# Altium footprint library PcbLib.PcbLib: 4 footprints
Each footprint in its own frame and in the unit in brackets; x right, y up, seen from the top. Pads: shape width x height; smd on the part's side, far side on the other; paste and mask are expansions set on the pad; w line width, h text height; cw(c..) or ccw(c..) is an arc to the next point about the centre after c.
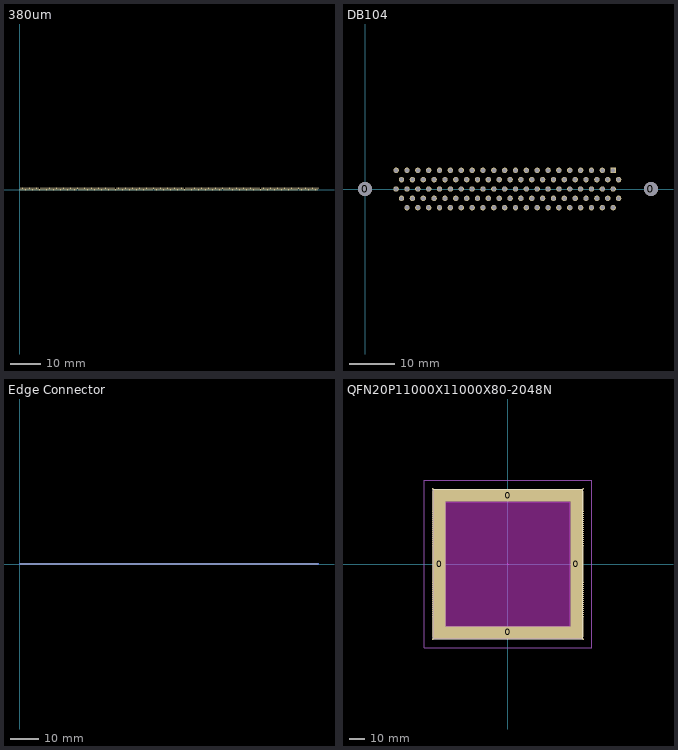
[diagram p0: the footprints below, top view; thin cyan lines are the x and y axes]

## 380um [mm]
pads (512):
  rect 0.1x0.4 smd mask+0: 1(0,0) 2(0.19,0.47) 3(0.38,0) 4(0.57,0.47) 5(0.76,0) 6(0.95,0.47) 7(1.14,0) 8(1.33,0.47) 9(1.52,0) 10(1.71,0.47) 11(1.9,0) 12(2.09,0.47) 13(2.28,0) 14(2.47,0.47) 15(2.66,0) 16(2.85,0.47) 17(3.04,0) 18(3.23,0.47) 19(3.42,0) 20(3.61,0.47) 21(3.8,0) 22(3.99,0.47) 23(4.18,0) 24(4.37,0.47) 25(4.56,0) 26(4.75,0.47) 27(4.94,0) 28(5.13,0.47) 29(5.32,0) 30(5.51,0.47) 31(5.7,0) 32(5.89,0.47) 33(6.08,0) 34(6.27,0.47) 35(6.46,0) 36(6.65,0.47) 37(6.84,0) 38(7.03,0.47) 39(7.22,0) 40(7.41,0.47) 41(7.6,0) 42(7.79,0.47) 43(7.98,0) 44(8.17,0.47) 45(8.36,0) 46(8.55,0.47) 47(8.74,0) 48(8.93,0.47) 49(9.12,0) 50(9.31,0.47) 51(9.5,0) 52(9.69,0.47) 53(9.88,0) 54(10.07,0.47) 55(10.26,0) 56(10.45,0.47) 57(10.64,0) 58(10.83,0.47) 59(11.02,0) 60(11.21,0.47) 61(11.4,0) 62(11.59,0.47) 63(11.78,0) 64(11.97,0.47) 65(12.16,0) 66(12.35,0.47) 67(12.54,0) 68(12.73,0.47) 69(12.92,0) 70(13.11,0.47) 71(13.3,0) 72(13.49,0.47) 73(13.68,0) 74(13.87,0.47) 75(14.06,0) 76(14.25,0.47) 77(14.44,0) 78(14.63,0.47) 79(14.82,0) 80(15.01,0.47) 81(15.2,0) 82(15.39,0.47) 83(15.58,0) 84(15.77,0.47) 85(15.96,0) 86(16.15,0.47) 87(16.34,0) 88(16.53,0.47) 89(16.72,0) 90(16.91,0.47) 91(17.1,0) 92(17.29,0.47) 93(17.48,0) 94(17.67,0.47) 95(17.86,0) 96(18.05,0.47) 97(18.24,0) 98(18.43,0.47) 99(18.62,0) 100(18.81,0.47) 101(19,0) 102(19.19,0.47) 103(19.38,0) 104(19.57,0.47) 105(19.76,0) 106(19.95,0.47) 107(20.14,0) 108(20.33,0.47) 109(20.52,0) 110(20.71,0.47) 111(20.9,0) 112(21.09,0.47) 113(21.28,0) 114(21.47,0.47) 115(21.66,0) 116(21.85,0.47) 117(22.04,0) 118(22.23,0.47) 119(22.42,0) 120(22.61,0.47) 121(22.8,0) 122(22.99,0.47) 123(23.18,0) 124(23.37,0.47) 125(23.56,0) 126(23.75,0.47) 127(23.94,0) 128(24.13,0.47) 129(24.32,0) 130(24.51,0.47) 131(24.7,0) 132(24.89,0.47) 133(25.08,0) 134(25.27,0.47) 135(25.46,0) 136(25.65,0.47) 137(25.84,0) 138(26.03,0.47) 139(26.22,0) 140(26.41,0.47) 141(26.6,0) 142(26.79,0.47) 143(26.98,0) 144(27.17,0.47) 145(27.36,0) 146(27.55,0.47) 147(27.74,0) 148(27.93,0.47) 149(28.12,0) 150(28.31,0.47) 151(28.5,0) 152(28.69,0.47) 153(28.88,0) 154(29.07,0.47) 155(29.26,0) 156(29.45,0.47) 157(29.64,0) 158(29.83,0.47) 159(30.02,0) 160(30.21,0.47) 161(30.4,0) 162(30.59,0.47) 163(30.78,0) 164(30.97,0.47) 165(31.16,0) 166(31.35,0.47) 167(31.54,0) 168(31.73,0.47) 169(31.92,0) 170(32.11,0.47) 171(32.3,0) 172(32.49,0.47) 173(32.68,0) 174(32.87,0.47) 175(33.06,0) 176(33.25,0.47) 177(33.44,0) 178(33.63,0.47) 179(33.82,0) 180(34.01,0.47) 181(34.2,0) 182(34.39,0.47) 183(34.58,0) 184(34.77,0.47) 185(34.96,0) 186(35.15,0.47) 187(35.34,0) 188(35.53,0.47) 189(35.72,0) 190(35.91,0.47) 191(36.1,0) 192(36.29,0.47) 193(36.48,0) 194(36.67,0.47) 195(36.86,0) 196(37.05,0.47) 197(37.24,0) 198(37.43,0.47) 199(37.62,0) 200(37.81,0.47) 201(38,0) 202(38.19,0.47) 203(38.38,0) 204(38.57,0.47) 205(38.76,0) 206(38.95,0.47) 207(39.14,0) 208(39.33,0.47) 209(39.52,0) 210(39.71,0.47) 211(39.9,0) 212(40.09,0.47) 213(40.28,0) 214(40.47,0.47) 215(40.66,0) 216(40.85,0.47) 217(41.04,0) 218(41.23,0.47) 219(41.42,0) 220(41.61,0.47) 221(41.8,0) 222(41.99,0.47) 223(42.18,0) 224(42.37,0.47) 225(42.56,0) 226(42.75,0.47) 227(42.94,0) 228(43.13,0.47) 229(43.32,0) 230(43.51,0.47) 231(43.7,0) 232(43.89,0.47) 233(44.08,0) 234(44.27,0.47) 235(44.46,0) 236(44.65,0.47) 237(44.84,0) 238(45.03,0.47) 239(45.22,0) 240(45.41,0.47) 241(45.6,0) 242(45.79,0.47) 243(45.98,0) 244(46.17,0.47) 245(46.36,0) 246(46.55,0.47) 247(46.74,0) 248(46.93,0.47) 249(47.12,0) 250(47.31,0.47) 251(47.5,0) 252(47.69,0.47) 253(47.88,0) 254(48.07,0.47) 255(48.26,0) 256(48.45,0.47) 257(48.64,0) 258(48.83,0.47) 259(49.02,0) 260(49.21,0.47) 261(49.4,0) 262(49.59,0.47) 263(49.78,0) 264(49.97,0.47) 265(50.16,0) 266(50.35,0.47) 267(50.54,0) 268(50.73,0.47) 269(50.92,0) 270(51.11,0.47) 271(51.3,0) 272(51.49,0.47) 273(51.68,0) 274(51.87,0.47) 275(52.06,0) 276(52.25,0.47) 277(52.44,0) 278(52.63,0.47) 279(52.82,0) 280(53.01,0.47) 281(53.2,0) 282(53.39,0.47) 283(53.58,0) 284(53.77,0.47) 285(53.96,0) 286(54.15,0.47) 287(54.34,0) 288(54.53,0.47) 289(54.72,0) 290(54.91,0.47) 291(55.1,0) 292(55.29,0.47) 293(55.48,0) 294(55.67,0.47) 295(55.86,0) 296(56.05,0.47) 297(56.24,0) 298(56.43,0.47) 299(56.62,0) 300(56.81,0.47) 301(57,0) 302(57.19,0.47) 303(57.38,0) 304(57.57,0.47) 305(57.76,0) 306(57.95,0.47) 307(58.14,0) 308(58.33,0.47) 309(58.52,0) 310(58.71,0.47) 311(58.9,0) 312(59.09,0.47) 313(59.28,0) 314(59.47,0.47) 315(59.66,0) 316(59.85,0.47) 317(60.04,0) 318(60.23,0.47) 319(60.42,0) 320(60.61,0.47) 321(60.8,0) 322(60.99,0.47) 323(61.18,0) 324(61.37,0.47) 325(61.56,0) 326(61.75,0.47) 327(61.94,0) 328(62.13,0.47) 329(62.32,0) 330(62.51,0.47) 331(62.7,0) 332(62.89,0.47) 333(63.08,0) 334(63.27,0.47) 335(63.46,0) 336(63.65,0.47) 337(63.84,0) 338(64.03,0.47) 339(64.22,0) 340(64.41,0.47) 341(64.6,0) 342(64.79,0.47) 343(64.98,0) 344(65.17,0.47) 345(65.36,0) 346(65.55,0.47) 347(65.74,0) 348(65.93,0.47) 349(66.12,0) 350(66.31,0.47) 351(66.5,0) 352(66.69,0.47) 353(66.88,0) 354(67.07,0.47) 355(67.26,0) 356(67.45,0.47) 357(67.64,0) 358(67.83,0.47) 359(68.02,0) 360(68.21,0.47) 361(68.4,0) 362(68.59,0.47) 363(68.78,0) 364(68.97,0.47) 365(69.16,0) 366(69.35,0.47) 367(69.54,0) 368(69.73,0.47) 369(69.92,0) 370(70.11,0.47) 371(70.3,0) 372(70.49,0.47) 373(70.68,0) 374(70.87,0.47) 375(71.06,0) 376(71.25,0.47) 377(71.44,0) 378(71.63,0.47) 379(71.82,0) 380(72.01,0.47) 381(72.2,0) 382(72.39,0.47) 383(72.58,0) 384(72.77,0.47) 385(72.96,0) 386(73.15,0.47) 387(73.34,0) 388(73.53,0.47) 389(73.72,0) 390(73.91,0.47) 391(74.1,0) 392(74.29,0.47) 393(74.48,0) 394(74.67,0.47) 395(74.86,0) 396(75.05,0.47) 397(75.24,0) 398(75.43,0.47) 399(75.62,0) 400(75.81,0.47) 401(76,0) 402(76.19,0.47) 403(76.38,0) 404(76.57,0.47) 405(76.76,0) 406(76.95,0.47) 407(77.14,0) 408(77.33,0.47) 409(77.52,0) 410(77.71,0.47) 411(77.9,0) 412(78.09,0.47) 413(78.28,0) 414(78.47,0.47) 415(78.66,0) 416(78.85,0.47) 417(79.04,0) 418(79.23,0.47) 419(79.42,0) 420(79.61,0.47) 421(79.8,0) 422(79.99,0.47) 423(80.18,0) 424(80.37,0.47) 425(80.56,0) 426(80.75,0.47) 427(80.94,0) 428(81.13,0.47) 429(81.32,0) 430(81.51,0.47) 431(81.7,0) 432(81.89,0.47) 433(82.08,0) 434(82.27,0.47) 435(82.46,0) 436(82.65,0.47) 437(82.84,0) 438(83.03,0.47) 439(83.22,0) 440(83.41,0.47) 441(83.6,0) 442(83.79,0.47) 443(83.98,0) 444(84.17,0.47) 445(84.36,0) 446(84.55,0.47) 447(84.74,0) 448(84.93,0.47) 449(85.12,0) 450(85.31,0.47) 451(85.5,0) 452(85.69,0.47) 453(85.88,0) 454(86.07,0.47) 455(86.26,0) 456(86.45,0.47) 457(86.64,0) 458(86.83,0.47) 459(87.02,0) 460(87.21,0.47) 461(87.4,0) 462(87.59,0.47) 463(87.78,0) 464(87.97,0.47) 465(88.16,0) 466(88.35,0.47) 467(88.54,0) 468(88.73,0.47) 469(88.92,0) 470(89.11,0.47) 471(89.3,0) 472(89.49,0.47) 473(89.68,0) 474(89.87,0.47) 475(90.06,0) 476(90.25,0.47) 477(90.44,0) 478(90.63,0.47) 479(90.82,0) 480(91.01,0.47) 481(91.2,0) 482(91.39,0.47) 483(91.58,0) 484(91.77,0.47) 485(91.96,0) 486(92.15,0.47) 487(92.34,0) 488(92.53,0.47) 489(92.72,0) 490(92.91,0.47) 491(93.1,0) 492(93.29,0.47) 493(93.48,0) 494(93.67,0.47) 495(93.86,0) 496(94.05,0.47) 497(94.24,0) 498(94.43,0.47) 499(94.62,0) 500(94.81,0.47) 501(95,0) 502(95.19,0.47) 503(95.38,0) 504(95.57,0.47) 505(95.76,0) 506(95.95,0.47) 507(96.14,0) 508(96.33,0.47) 509(96.52,0) 510(96.71,0.47) 511(96.9,0) 512(97.09,0.47)

## DB104 [mm]
pads (106):
  round 3.12 hole 3.12: 0(0,0) 0(63.5,0)
  rect 1.2x1.2 hole 0.89: 1(55.105,4.16)
  round 1.2 hole 0.89: 2(52.695,4.16) 3(50.285,4.16) 4(47.875,4.16) 5(45.465,4.16) 6(43.055,4.16) 7(40.645,4.16) 8(38.235,4.16) 9(35.825,4.16) 10(33.415,4.16) 11(31.005,4.16) 12(28.595,4.16) 13(26.185,4.16) 14(23.775,4.16) 15(21.365,4.16) 16(18.955,4.16) 17(16.545,4.16) 18(14.135,4.16) 19(11.725,4.16) 20(9.315,4.16) 21(6.905,4.16) 22(56.31,2.08) 23(53.9,2.08) 24(51.49,2.08) 25(49.08,2.08) 26(46.67,2.08) 27(44.26,2.08) 28(41.85,2.08) 29(39.44,2.08) 30(37.03,2.08) 31(34.62,2.08) 32(32.21,2.08) 33(29.8,2.08) 34(27.39,2.08) 35(24.98,2.08) 36(22.57,2.08) 37(20.16,2.08) 38(17.75,2.08) 39(15.34,2.08) 40(12.93,2.08) 41(10.52,2.08) 42(8.11,2.08) 43(55.105,0) 44(52.695,0) 45(50.285,0) 46(47.875,0) 47(45.465,0) 48(43.055,0) 49(40.645,0) 50(38.235,0) 51(35.825,0) 52(33.415,0) 53(31.005,0) 54(28.595,0) 55(26.185,0) 56(23.775,0) 57(21.365,0) 58(18.955,0) 59(16.545,0) 60(14.135,0) 61(11.725,0) 62(9.315,0) 63(6.905,0) 64(56.31,-2.08) 65(53.9,-2.08) 66(51.49,-2.08) 67(49.08,-2.08) 68(46.67,-2.08) 69(44.26,-2.08) 70(41.85,-2.08) 71(39.44,-2.08) 72(37.03,-2.08) 73(34.62,-2.08) 74(32.21,-2.08) 75(29.8,-2.08) 76(27.39,-2.08) 77(24.98,-2.08) 78(22.57,-2.08) 79(20.16,-2.08) 80(17.75,-2.08) 81(15.34,-2.08) 82(12.93,-2.08) 83(10.52,-2.08) 84(8.11,-2.08) 85(55.105,-4.16) 86(52.695,-4.16) 87(50.285,-4.16) 88(47.875,-4.16) 89(45.465,-4.16) 90(43.055,-4.16) 91(40.645,-4.16) 92(38.235,-4.16) 93(35.825,-4.16) 94(33.415,-4.16) 95(31.005,-4.16) 96(28.595,-4.16) 97(26.185,-4.16) 98(23.775,-4.16) 99(21.365,-4.16) 100(18.955,-4.16) 101(16.545,-4.16) 102(14.135,-4.16) 103(11.725,-4.16) 104(9.315,-4.16)
3D body "dd104s32000s.stp": height 15.59, standoff -7.49, extent -2.909,-8.484 66.408,8.484

## Edge Connector [mil]
pads (1024):
  rect 4x15.75 smd: 1(0,0) 2(8,0) 3(16,0) 4(24,0) 5(32,0) 6(40,0) 7(48,0) 8(56,0) 9(64,0) 10(72,0) 11(80,0) 12(88,0) 13(96,0) 14(104,0) 15(112,0) 16(120,0) 17(128,0) 18(136,0) 19(144,0) 20(152,0) 21(160,0) 22(168,0) 23(176,0) 24(184,0) 25(192,0) 26(200,0) 27(208,0) 28(216,0) 29(224,0) 30(232,0) 31(240,0) 32(248,0) 33(256,0) 34(264,0) 35(272,0) 36(280,0) 37(288,0) 38(296,0) 39(304,0) 40(312,0) 41(320,0) 42(328,0) 43(336,0) 44(344,0) 45(352,0) 46(360,0) 47(368,0) 48(376,0) 49(384,0) 50(392,0) 51(400,0) 52(408,0) 53(416,0) 54(424,0) 55(432,0) 56(440,0) 57(448,0) 58(456,0) 59(464,0) 60(472,0) 61(480,0) 62(488,0) 63(496,0) 64(504,0) 65(512,0) 66(520,0) 67(528,0) 68(536,0) 69(544,0) 70(552,0) 71(560,0) 72(568,0) 73(576,0) 74(584,0) 75(592,0) 76(600,0) 77(608,0) 78(616,0) 79(624,0) 80(632,0) 81(640,0) 82(648,0) 83(656,0) 84(664,0) 85(672,0) 86(680,0) 87(688,0) 88(696,0) 89(704,0) 90(712,0) 91(720,0) 92(728,0) 93(736,0) 94(744,0) 95(752,0) 96(760,0) 97(768,0) 98(776,0) 99(784,0) 100(792,0) 101(800,0) 102(808,0) 103(816,0) 104(824,0) 105(832,0) 106(840,0) 107(848,0) 108(856,0) 109(864,0) 110(872,0) 111(880,0) 112(888,0) 113(896,0) 114(904,0) 115(912,0) 116(920,0) 117(928,0) 118(936,0) 119(944,0) 120(952,0) 121(960,0) 122(968,0) 123(976,0) 124(984,0) 125(992,0) 126(1000,0) 127(1008,0) 128(1016,0) 129(1024,0) 130(1032,0) 131(1040,0) 132(1048,0) 133(1056,0) 134(1064,0) 135(1072,0) 136(1080,0) 137(1088,0) 138(1096,0) 139(1104,0) 140(1112,0) 141(1120,0) 142(1128,0) 143(1136,0) 144(1144,0) 145(1152,0) 146(1160,0) 147(1168,0) 148(1176,0) 149(1184,0) 150(1192,0) 151(1200,0) 152(1208,0) 153(1216,0) 154(1224,0) 155(1232,0) 156(1240,0) 157(1248,0) 158(1256,0) 159(1264,0) 160(1272,0) 161(1280,0) 162(1288,0) 163(1296,0) 164(1304,0) 165(1312,0) 166(1320,0) 167(1328,0) 168(1336,0) 169(1344,0) 170(1352,0) 171(1360,0) 172(1368,0) 173(1376,0) 174(1384,0) 175(1392,0) 176(1400,0) 177(1408,0) 178(1416,0) 179(1424,0) 180(1432,0) 181(1440,0) 182(1448,0) 183(1456,0) 184(1464,0) 185(1472,0) 186(1480,0) 187(1488,0) 188(1496,0) 189(1504,0) 190(1512,0) 191(1520,0) 192(1528,0) 193(1536,0) 194(1544,0) 195(1552,0) 196(1560,0) 197(1568,0) 198(1576,0) 199(1584,0) 200(1592,0) 201(1600,0) 202(1608,0) 203(1616,0) 204(1624,0) 205(1632,0) 206(1640,0) 207(1648,0) 208(1656,0) 209(1664,0) 210(1672,0) 211(1680,0) 212(1688,0) 213(1696,0) 214(1704,0) 215(1712,0) 216(1720,0) 217(1728,0) 218(1736,0) 219(1744,0) 220(1752,0) 221(1760,0) 222(1768,0) 223(1776,0) 224(1784,0) 225(1792,0) 226(1800,0) 227(1808,0) 228(1816,0) 229(1824,0) 230(1832,0) 231(1840,0) 232(1848,0) 233(1856,0) 234(1864,0) 235(1872,0) 236(1880,0) 237(1888,0) 238(1896,0) 239(1904,0) 240(1912,0) 241(1920,0) 242(1928,0) 243(1936,0) 244(1944,0) 245(1952,0) 246(1960,0) 247(1968,0) 248(1976,0) 249(1984,0) 250(1992,0) 251(2000,0) 252(2008,0) 253(2016,0) 254(2024,0) 255(2032,0) 256(2040,0) 257(2048,0) 258(2056,0) 259(2064,0) 260(2072,0) 261(2080,0) 262(2088,0) 263(2096,0) 264(2104,0) 265(2112,0) 266(2120,0) 267(2128,0) 268(2136,0) 269(2144,0) 270(2152,0) 271(2160,0) 272(2168,0) 273(2176,0) 274(2184,0) 275(2192,0) 276(2200,0) 277(2208,0) 278(2216,0) 279(2224,0) 280(2232,0) 281(2240,0) 282(2248,0) 283(2256,0) 284(2264,0) 285(2272,0) 286(2280,0) 287(2288,0) 288(2296,0) 289(2304,0) 290(2312,0) 291(2320,0) 292(2328,0) 293(2336,0) 294(2344,0) 295(2352,0) 296(2360,0) 297(2368,0) 298(2376,0) 299(2384,0) 300(2392,0) 301(2400,0) 302(2408,0) 303(2416,0) 304(2424,0) 305(2432,0) 306(2440,0) 307(2448,0) 308(2456,0) 309(2464,0) 310(2472,0) 311(2480,0) 312(2488,0) 313(2496,0) 314(2504,0) 315(2512,0) 316(2520,0) 317(2528,0) 318(2536,0) 319(2544,0) 320(2552,0) 321(2560,0) 322(2568,0) 323(2576,0) 324(2584,0) 325(2592,0) 326(2600,0) 327(2608,0) 328(2616,0) 329(2624,0) 330(2632,0) 331(2640,0) 332(2648,0) 333(2656,0) 334(2664,0) 335(2672,0) 336(2680,0) 337(2688,0) 338(2696,0) 339(2704,0) 340(2712,0) 341(2720,0) 342(2728,0) 343(2736,0) 344(2744,0) 345(2752,0) 346(2760,0) 347(2768,0) 348(2776,0) 349(2784,0) 350(2792,0) 351(2800,0) 352(2808,0) 353(2816,0) 354(2824,0) 355(2832,0) 356(2840,0) 357(2848,0) 358(2856,0) 359(2864,0) 360(2872,0) 361(2880,0) 362(2888,0) 363(2896,0) 364(2904,0) 365(2912,0) 366(2920,0) 367(2928,0) 368(2936,0) 369(2944,0) 370(2952,0) 371(2960,0) 372(2968,0) 373(2976,0) 374(2984,0) 375(2992,0) 376(3000,0) 377(3008,0) 378(3016,0) 379(3024,0) 380(3032,0) 381(3040,0) 382(3048,0) 383(3056,0) 384(3064,0) 385(3072,0) 386(3080,0) 387(3088,0) 388(3096,0) 389(3104,0) 390(3112,0) 391(3120,0) 392(3128,0) 393(3136,0) 394(3144,0) 395(3152,0) 396(3160,0) 397(3168,0) 398(3176,0) 399(3184,0) 400(3192,0) 401(3200,0) 402(3208,0) 403(3216,0) 404(3224,0) 405(3232,0) 406(3240,0) 407(3248,0) 408(3256,0) 409(3264,0) 410(3272,0) 411(3280,0) 412(3288,0) 413(3296,0) 414(3304,0) 415(3312,0) 416(3320,0) 417(3328,0) 418(3336,0) 419(3344,0) 420(3352,0) 421(3360,0) 422(3368,0) 423(3376,0) 424(3384,0) 425(3392,0) 426(3400,0) 427(3408,0) 428(3416,0) 429(3424,0) 430(3432,0) 431(3440,0) 432(3448,0) 433(3456,0) 434(3464,0) 435(3472,0) 436(3480,0) 437(3488,0) 438(3496,0) 439(3504,0) 440(3512,0) 441(3520,0) 442(3528,0) 443(3536,0) 444(3544,0) 445(3552,0) 446(3560,0) 447(3568,0) 448(3576,0) 449(3584,0) 450(3592,0) 451(3600,0) 452(3608,0) 453(3616,0) 454(3624,0) 455(3632,0) 456(3640,0) 457(3648,0) 458(3656,0) 459(3664,0) 460(3672,0) 461(3680,0) 462(3688,0) 463(3696,0) 464(3704,0) 465(3712,0) 466(3720,0) 467(3728,0) 468(3736,0) 469(3744,0) 470(3752,0) 471(3760,0) 472(3768,0) 473(3776,0) 474(3784,0) 475(3792,0) 476(3800,0) 477(3808,0) 478(3816,0) 479(3824,0) 480(3832,0) 481(3840,0) 482(3848,0) 483(3856,0) 484(3864,0) 485(3872,0) 486(3880,0) 487(3888,0) 488(3896,0) 489(3904,0) 490(3912,0) 491(3920,0) 492(3928,0) 493(3936,0) 494(3944,0) 495(3952,0) 496(3960,0) 497(3968,0) 498(3976,0) 499(3984,0) 500(3992,0) 501(4000,0) 502(4008,0) 503(4016,0) 504(4024,0) 505(4032,0) 506(4040,0) 507(4048,0) 508(4056,0) 509(4064,0) 510(4072,0) 511(4080,0) 512(4088,0)
  rect 4x15.75 smd far side: 1(0,0) 2(8,0) 3(16,0) 4(24,0) 5(32,0) 6(40,0) 7(48,0) 8(56,0) 9(64,0) 10(72,0) 11(80,0) 12(88,0) 13(96,0) 14(104,0) 15(112,0) 16(120,0) 17(128,0) 18(136,0) 19(144,0) 20(152,0) 21(160,0) 22(168,0) 23(176,0) 24(184,0) 25(192,0) 26(200,0) 27(208,0) 28(216,0) 29(224,0) 30(232,0) 31(240,0) 32(248,0) 33(256,0) 34(264,0) 35(272,0) 36(280,0) 37(288,0) 38(296,0) 39(304,0) 40(312,0) 41(320,0) 42(328,0) 43(336,0) 44(344,0) 45(352,0) 46(360,0) 47(368,0) 48(376,0) 49(384,0) 50(392,0) 51(400,0) 52(408,0) 53(416,0) 54(424,0) 55(432,0) 56(440,0) 57(448,0) 58(456,0) 59(464,0) 60(472,0) 61(480,0) 62(488,0) 63(496,0) 64(504,0) 65(512,0) 66(520,0) 67(528,0) 68(536,0) 69(544,0) 70(552,0) 71(560,0) 72(568,0) 73(576,0) 74(584,0) 75(592,0) 76(600,0) 77(608,0) 78(616,0) 79(624,0) 80(632,0) 81(640,0) 82(648,0) 83(656,0) 84(664,0) 85(672,0) 86(680,0) 87(688,0) 88(696,0) 89(704,0) 90(712,0) 91(720,0) 92(728,0) 93(736,0) 94(744,0) 95(752,0) 96(760,0) 97(768,0) 98(776,0) 99(784,0) 100(792,0) 101(800,0) 102(808,0) 103(816,0) 104(824,0) 105(832,0) 106(840,0) 107(848,0) 108(856,0) 109(864,0) 110(872,0) 111(880,0) 112(888,0) 113(896,0) 114(904,0) 115(912,0) 116(920,0) 117(928,0) 118(936,0) 119(944,0) 120(952,0) 121(960,0) 122(968,0) 123(976,0) 124(984,0) 125(992,0) 126(1000,0) 127(1008,0) 128(1016,0) 129(1024,0) 130(1032,0) 131(1040,0) 132(1048,0) 133(1056,0) 134(1064,0) 135(1072,0) 136(1080,0) 137(1088,0) 138(1096,0) 139(1104,0) 140(1112,0) 141(1120,0) 142(1128,0) 143(1136,0) 144(1144,0) 145(1152,0) 146(1160,0) 147(1168,0) 148(1176,0) 149(1184,0) 150(1192,0) 151(1200,0) 152(1208,0) 153(1216,0) 154(1224,0) 155(1232,0) 156(1240,0) 157(1248,0) 158(1256,0) 159(1264,0) 160(1272,0) 161(1280,0) 162(1288,0) 163(1296,0) 164(1304,0) 165(1312,0) 166(1320,0) 167(1328,0) 168(1336,0) 169(1344,0) 170(1352,0) 171(1360,0) 172(1368,0) 173(1376,0) 174(1384,0) 175(1392,0) 176(1400,0) 177(1408,0) 178(1416,0) 179(1424,0) 180(1432,0) 181(1440,0) 182(1448,0) 183(1456,0) 184(1464,0) 185(1472,0) 186(1480,0) 187(1488,0) 188(1496,0) 189(1504,0) 190(1512,0) 191(1520,0) 192(1528,0) 193(1536,0) 194(1544,0) 195(1552,0) 196(1560,0) 197(1568,0) 198(1576,0) 199(1584,0) 200(1592,0) 201(1600,0) 202(1608,0) 203(1616,0) 204(1624,0) 205(1632,0) 206(1640,0) 207(1648,0) 208(1656,0) 209(1664,0) 210(1672,0) 211(1680,0) 212(1688,0) 213(1696,0) 214(1704,0) 215(1712,0) 216(1720,0) 217(1728,0) 218(1736,0) 219(1744,0) 220(1752,0) 221(1760,0) 222(1768,0) 223(1776,0) 224(1784,0) 225(1792,0) 226(1800,0) 227(1808,0) 228(1816,0) 229(1824,0) 230(1832,0) 231(1840,0) 232(1848,0) 233(1856,0) 234(1864,0) 235(1872,0) 236(1880,0) 237(1888,0) 238(1896,0) 239(1904,0) 240(1912,0) 241(1920,0) 242(1928,0) 243(1936,0) 244(1944,0) 245(1952,0) 246(1960,0) 247(1968,0) 248(1976,0) 249(1984,0) 250(1992,0) 251(2000,0) 252(2008,0) 253(2016,0) 254(2024,0) 255(2032,0) 256(2040,0) 257(2048,0) 258(2056,0) 259(2064,0) 260(2072,0) 261(2080,0) 262(2088,0) 263(2096,0) 264(2104,0) 265(2112,0) 266(2120,0) 267(2128,0) 268(2136,0) 269(2144,0) 270(2152,0) 271(2160,0) 272(2168,0) 273(2176,0) 274(2184,0) 275(2192,0) 276(2200,0) 277(2208,0) 278(2216,0) 279(2224,0) 280(2232,0) 281(2240,0) 282(2248,0) 283(2256,0) 284(2264,0) 285(2272,0) 286(2280,0) 287(2288,0) 288(2296,0) 289(2304,0) 290(2312,0) 291(2320,0) 292(2328,0) 293(2336,0) 294(2344,0) 295(2352,0) 296(2360,0) 297(2368,0) 298(2376,0) 299(2384,0) 300(2392,0) 301(2400,0) 302(2408,0) 303(2416,0) 304(2424,0) 305(2432,0) 306(2440,0) 307(2448,0) 308(2456,0) 309(2464,0) 310(2472,0) 311(2480,0) 312(2488,0) 313(2496,0) 314(2504,0) 315(2512,0) 316(2520,0) 317(2528,0) 318(2536,0) 319(2544,0) 320(2552,0) 321(2560,0) 322(2568,0) 323(2576,0) 324(2584,0) 325(2592,0) 326(2600,0) 327(2608,0) 328(2616,0) 329(2624,0) 330(2632,0) 331(2640,0) 332(2648,0) 333(2656,0) 334(2664,0) 335(2672,0) 336(2680,0) 337(2688,0) 338(2696,0) 339(2704,0) 340(2712,0) 341(2720,0) 342(2728,0) 343(2736,0) 344(2744,0) 345(2752,0) 346(2760,0) 347(2768,0) 348(2776,0) 349(2784,0) 350(2792,0) 351(2800,0) 352(2808,0) 353(2816,0) 354(2824,0) 355(2832,0) 356(2840,0) 357(2848,0) 358(2856,0) 359(2864,0) 360(2872,0) 361(2880,0) 362(2888,0) 363(2896,0) 364(2904,0) 365(2912,0) 366(2920,0) 367(2928,0) 368(2936,0) 369(2944,0) 370(2952,0) 371(2960,0) 372(2968,0) 373(2976,0) 374(2984,0) 375(2992,0) 376(3000,0) 377(3008,0) 378(3016,0) 379(3024,0) 380(3032,0) 381(3040,0) 382(3048,0) 383(3056,0) 384(3064,0) 385(3072,0) 386(3080,0) 387(3088,0) 388(3096,0) 389(3104,0) 390(3112,0) 391(3120,0) 392(3128,0) 393(3136,0) 394(3144,0) 395(3152,0) 396(3160,0) 397(3168,0) 398(3176,0) 399(3184,0) 400(3192,0) 401(3200,0) 402(3208,0) 403(3216,0) 404(3224,0) 405(3232,0) 406(3240,0) 407(3248,0) 408(3256,0) 409(3264,0) 410(3272,0) 411(3280,0) 412(3288,0) 413(3296,0) 414(3304,0) 415(3312,0) 416(3320,0) 417(3328,0) 418(3336,0) 419(3344,0) 420(3352,0) 421(3360,0) 422(3368,0) 423(3376,0) 424(3384,0) 425(3392,0) 426(3400,0) 427(3408,0) 428(3416,0) 429(3424,0) 430(3432,0) 431(3440,0) 432(3448,0) 433(3456,0) 434(3464,0) 435(3472,0) 436(3480,0) 437(3488,0) 438(3496,0) 439(3504,0) 440(3512,0) 441(3520,0) 442(3528,0) 443(3536,0) 444(3544,0) 445(3552,0) 446(3560,0) 447(3568,0) 448(3576,0) 449(3584,0) 450(3592,0) 451(3600,0) 452(3608,0) 453(3616,0) 454(3624,0) 455(3632,0) 456(3640,0) 457(3648,0) 458(3656,0) 459(3664,0) 460(3672,0) 461(3680,0) 462(3688,0) 463(3696,0) 464(3704,0) 465(3712,0) 466(3720,0) 467(3728,0) 468(3736,0) 469(3744,0) 470(3752,0) 471(3760,0) 472(3768,0) 473(3776,0) 474(3784,0) 475(3792,0) 476(3800,0) 477(3808,0) 478(3816,0) 479(3824,0) 480(3832,0) 481(3840,0) 482(3848,0) 483(3856,0) 484(3864,0) 485(3872,0) 486(3880,0) 487(3888,0) 488(3896,0) 489(3904,0) 490(3912,0) 491(3920,0) 492(3928,0) 493(3936,0) 494(3944,0) 495(3952,0) 496(3960,0) 497(3968,0) 498(3976,0) 499(3984,0) 500(3992,0) 501(4000,0) 502(4008,0) 503(4016,0) 504(4024,0) 505(4032,0) 506(4040,0) 507(4048,0) 508(4056,0) 509(4064,0) 510(4072,0) 511(4080,0) 512(4088,0)

## QFN20P11000X11000X80-2048N [mm] "QFN, 2048-Leads, Body 110,00x110,00mm, Pitch 0,20mm, IPC Medium Density"
height 0.8
pads (1032):
  rect 8x98.7 smd: 0(-45.385,0) 0(45.385,0)
  rect 98.7x8 smd: 0(0,-45.385) 0(0,45.385)
  rect 0.4x0.1 smd paste+0 mask+0: 1(-50.085,48.545) 2(-50.085,48.355) 3(-50.085,48.165) 4(-50.085,47.975) 5(-50.085,47.785) 6(-50.085,47.595) 7(-50.085,47.405) 8(-50.085,47.215) 9(-50.085,47.025) 10(-50.085,46.835) 11(-50.085,46.645) 12(-50.085,46.455) 13(-50.085,46.265) 14(-50.085,46.075) 15(-50.085,45.885) 16(-50.085,45.695) 17(-50.085,45.505) 18(-50.085,45.315) 19(-50.085,45.125) 20(-50.085,44.935) 21(-50.085,44.745) 22(-50.085,44.555) 23(-50.085,44.365) 24(-50.085,44.175) 25(-50.085,43.985) 26(-50.085,43.795) 27(-50.085,43.605) 28(-50.085,43.415) 29(-50.085,43.225) 30(-50.085,43.035) 31(-50.085,42.845) 32(-50.085,42.655) 33(-50.085,42.465) 34(-50.085,42.275) 35(-50.085,42.085) 36(-50.085,41.895) 37(-50.085,41.705) 38(-50.085,41.515) 39(-50.085,41.325) 40(-50.085,41.135) 41(-50.085,40.945) 42(-50.085,40.755) 43(-50.085,40.565) 44(-50.085,40.375) 45(-50.085,40.185) 46(-50.085,39.995) 47(-50.085,39.805) 48(-50.085,39.615) 49(-50.085,39.425) 50(-50.085,39.235) 51(-50.085,39.045) 52(-50.085,38.855) 53(-50.085,38.665) 54(-50.085,38.475) 55(-50.085,38.285) 56(-50.085,38.095) 57(-50.085,37.905) 58(-50.085,37.715) 59(-50.085,37.525) 60(-50.085,37.335) 61(-50.085,37.145) 62(-50.085,36.955) 63(-50.085,36.765) 64(-50.085,36.575) 65(-50.085,36.385) 66(-50.085,36.195) 67(-50.085,36.005) 68(-50.085,35.815) 69(-50.085,35.625) 70(-50.085,35.435) 71(-50.085,35.245) 72(-50.085,35.055) 73(-50.085,34.865) 74(-50.085,34.675) 75(-50.085,34.485) 76(-50.085,34.295) 77(-50.085,34.105) 78(-50.085,33.915) 79(-50.085,33.725) 80(-50.085,33.535) 81(-50.085,33.345) 82(-50.085,33.155) 83(-50.085,32.965) 84(-50.085,32.775) 85(-50.085,32.585) 86(-50.085,32.395) 87(-50.085,32.205) 88(-50.085,32.015) 89(-50.085,31.825) 90(-50.085,31.635) 91(-50.085,31.445) 92(-50.085,31.255) 93(-50.085,31.065) 94(-50.085,30.875) 95(-50.085,30.685) 96(-50.085,30.495) 97(-50.085,30.305) 98(-50.085,30.115) 99(-50.085,29.925) 100(-50.085,29.735) 101(-50.085,29.545) 102(-50.085,29.355) 103(-50.085,29.165) 104(-50.085,28.975) 105(-50.085,28.785) 106(-50.085,28.595) 107(-50.085,28.405) 108(-50.085,28.215) 109(-50.085,28.025) 110(-50.085,27.835) 111(-50.085,27.645) 112(-50.085,27.455) 113(-50.085,27.265) 114(-50.085,27.075) 115(-50.085,26.885) 116(-50.085,26.695) 117(-50.085,26.505) 118(-50.085,26.315) 119(-50.085,26.125) 120(-50.085,25.935) 121(-50.085,25.745) 122(-50.085,25.555) 123(-50.085,25.365) 124(-50.085,25.175) 125(-50.085,24.985) 126(-50.085,24.795) 127(-50.085,24.605) 128(-50.085,24.415) 129(-50.085,24.225) 130(-50.085,24.035) 131(-50.085,23.845) 132(-50.085,23.655) 133(-50.085,23.465) 134(-50.085,23.275) 135(-50.085,23.085) 136(-50.085,22.895) 137(-50.085,22.705) 138(-50.085,22.515) 139(-50.085,22.325) 140(-50.085,22.135) 141(-50.085,21.945) 142(-50.085,21.755) 143(-50.085,21.565) 144(-50.085,21.375) 145(-50.085,21.185) 146(-50.085,20.995) 147(-50.085,20.805) 148(-50.085,20.615) 149(-50.085,20.425) 150(-50.085,20.235) 151(-50.085,20.045) 152(-50.085,19.855) 153(-50.085,19.665) 154(-50.085,19.475) 155(-50.085,19.285) 156(-50.085,19.095) 157(-50.085,18.905) 158(-50.085,18.715) 159(-50.085,18.525) 160(-50.085,18.335) 161(-50.085,18.145) 162(-50.085,17.955) 163(-50.085,17.765) 164(-50.085,17.575) 165(-50.085,17.385) 166(-50.085,17.195) 167(-50.085,17.005) 168(-50.085,16.815) 169(-50.085,16.625) 170(-50.085,16.435) 171(-50.085,16.245) 172(-50.085,16.055) 173(-50.085,15.865) 174(-50.085,15.675) 175(-50.085,15.485) 176(-50.085,15.295) 177(-50.085,15.105) 178(-50.085,14.915) 179(-50.085,14.725) 180(-50.085,14.535) 181(-50.085,14.345) 182(-50.085,14.155) 183(-50.085,13.965) 184(-50.085,13.775) 185(-50.085,13.585) 186(-50.085,13.395) 187(-50.085,13.205) 188(-50.085,13.015) 189(-50.085,12.825) 190(-50.085,12.635) 191(-50.085,12.445) 192(-50.085,12.255) 193(-50.085,12.065) 194(-50.085,11.875) 195(-50.085,11.685) 196(-50.085,11.495) 197(-50.085,11.305) 198(-50.085,11.115) 199(-50.085,10.925) 200(-50.085,10.735) 201(-50.085,10.545) 202(-50.085,10.355) 203(-50.085,10.165) 204(-50.085,9.975) 205(-50.085,9.785) 206(-50.085,9.595) 207(-50.085,9.405) 208(-50.085,9.215) 209(-50.085,9.025) 210(-50.085,8.835) 211(-50.085,8.645) 212(-50.085,8.455) 213(-50.085,8.265) 214(-50.085,8.075) 215(-50.085,7.885) 216(-50.085,7.695) 217(-50.085,7.505) 218(-50.085,7.315) 219(-50.085,7.125) 220(-50.085,6.935) 221(-50.085,6.745) 222(-50.085,6.555) 223(-50.085,6.365) 224(-50.085,6.175) 225(-50.085,5.985) 226(-50.085,5.795) 227(-50.085,5.605) 228(-50.085,5.415) 229(-50.085,5.225) 230(-50.085,5.035) 231(-50.085,4.845) 232(-50.085,4.655) 233(-50.085,4.465) 234(-50.085,4.275) 235(-50.085,4.085) 236(-50.085,3.895) 237(-50.085,3.705) 238(-50.085,3.515) 239(-50.085,3.325) 240(-50.085,3.135) 241(-50.085,2.945) 242(-50.085,2.755) 243(-50.085,2.565) 244(-50.085,2.375) 245(-50.085,2.185) 246(-50.085,1.995) 247(-50.085,1.805) 248(-50.085,1.615) 249(-50.085,1.425) 250(-50.085,1.235) 251(-50.085,1.045) 252(-50.085,0.855) 253(-50.085,0.665) 254(-50.085,0.475) 255(-50.085,0.285) 256(-50.085,0.095) 257(-50.085,-0.095) 258(-50.085,-0.285) 259(-50.085,-0.475) 260(-50.085,-0.665) 261(-50.085,-0.855) 262(-50.085,-1.045) 263(-50.085,-1.235) 264(-50.085,-1.425) 265(-50.085,-1.615) 266(-50.085,-1.805) 267(-50.085,-1.995) 268(-50.085,-2.185) 269(-50.085,-2.375) 270(-50.085,-2.565) 271(-50.085,-2.755) 272(-50.085,-2.945) 273(-50.085,-3.135) 274(-50.085,-3.325) 275(-50.085,-3.515) 276(-50.085,-3.705) 277(-50.085,-3.895) 278(-50.085,-4.085) 279(-50.085,-4.275) 280(-50.085,-4.465) 281(-50.085,-4.655) 282(-50.085,-4.845) 283(-50.085,-5.035) 284(-50.085,-5.225) 285(-50.085,-5.415) 286(-50.085,-5.605) 287(-50.085,-5.795) 288(-50.085,-5.985) 289(-50.085,-6.175) 290(-50.085,-6.365) 291(-50.085,-6.555) 292(-50.085,-6.745) 293(-50.085,-6.935) 294(-50.085,-7.125) 295(-50.085,-7.315) 296(-50.085,-7.505) 297(-50.085,-7.695) 298(-50.085,-7.885) 299(-50.085,-8.075) 300(-50.085,-8.265) 301(-50.085,-8.455) 302(-50.085,-8.645) 303(-50.085,-8.835) 304(-50.085,-9.025) 305(-50.085,-9.215) 306(-50.085,-9.405) 307(-50.085,-9.595) 308(-50.085,-9.785) 309(-50.085,-9.975) 310(-50.085,-10.165) 311(-50.085,-10.355) 312(-50.085,-10.545) 313(-50.085,-10.735) 314(-50.085,-10.925) 315(-50.085,-11.115) 316(-50.085,-11.305) 317(-50.085,-11.495) 318(-50.085,-11.685) 319(-50.085,-11.875) 320(-50.085,-12.065) 321(-50.085,-12.255) 322(-50.085,-12.445) 323(-50.085,-12.635) 324(-50.085,-12.825) 325(-50.085,-13.015) 326(-50.085,-13.205) 327(-50.085,-13.395) 328(-50.085,-13.585) 329(-50.085,-13.775) 330(-50.085,-13.965) 331(-50.085,-14.155) 332(-50.085,-14.345) 333(-50.085,-14.535) 334(-50.085,-14.725) 335(-50.085,-14.915) 336(-50.085,-15.105) 337(-50.085,-15.295) 338(-50.085,-15.485) 339(-50.085,-15.675) 340(-50.085,-15.865) 341(-50.085,-16.055) 342(-50.085,-16.245) 343(-50.085,-16.435) 344(-50.085,-16.625) 345(-50.085,-16.815) 346(-50.085,-17.005) 347(-50.085,-17.195) 348(-50.085,-17.385) 349(-50.085,-17.575) 350(-50.085,-17.765) 351(-50.085,-17.955) 352(-50.085,-18.145) 353(-50.085,-18.335) 354(-50.085,-18.525) 355(-50.085,-18.715) 356(-50.085,-18.905) 357(-50.085,-19.095) 358(-50.085,-19.285) 359(-50.085,-19.475) 360(-50.085,-19.665) 361(-50.085,-19.855) 362(-50.085,-20.045) 363(-50.085,-20.235) 364(-50.085,-20.425) 365(-50.085,-20.615) 366(-50.085,-20.805) 367(-50.085,-20.995) 368(-50.085,-21.185) 369(-50.085,-21.375) 370(-50.085,-21.565) 371(-50.085,-21.755) 372(-50.085,-21.945) 373(-50.085,-22.135) 374(-50.085,-22.325) 375(-50.085,-22.515) 376(-50.085,-22.705) 377(-50.085,-22.895) 378(-50.085,-23.085) 379(-50.085,-23.275) 380(-50.085,-23.465) 381(-50.085,-23.655) 382(-50.085,-23.845) 383(-50.085,-24.035) 384(-50.085,-24.225) 385(-50.085,-24.415) 386(-50.085,-24.605) 387(-50.085,-24.795) 388(-50.085,-24.985) 389(-50.085,-25.175) 390(-50.085,-25.365) 391(-50.085,-25.555) 392(-50.085,-25.745) 393(-50.085,-25.935) 394(-50.085,-26.125) 395(-50.085,-26.315) 396(-50.085,-26.505) 397(-50.085,-26.695) 398(-50.085,-26.885) 399(-50.085,-27.075) 400(-50.085,-27.265) 401(-50.085,-27.455) 402(-50.085,-27.645) 403(-50.085,-27.835) 404(-50.085,-28.025) 405(-50.085,-28.215) 406(-50.085,-28.405) 407(-50.085,-28.595) 408(-50.085,-28.785) 409(-50.085,-28.975) 410(-50.085,-29.165) 411(-50.085,-29.355) 412(-50.085,-29.545) 413(-50.085,-29.735) 414(-50.085,-29.925) 415(-50.085,-30.115) 416(-50.085,-30.305) 417(-50.085,-30.495) 418(-50.085,-30.685) 419(-50.085,-30.875) 420(-50.085,-31.065) 421(-50.085,-31.255) 422(-50.085,-31.445) 423(-50.085,-31.635) 424(-50.085,-31.825) 425(-50.085,-32.015) 426(-50.085,-32.205) 427(-50.085,-32.395) 428(-50.085,-32.585) 429(-50.085,-32.775) 430(-50.085,-32.965) 431(-50.085,-33.155) 432(-50.085,-33.345) 433(-50.085,-33.535) 434(-50.085,-33.725) 435(-50.085,-33.915) 436(-50.085,-34.105) 437(-50.085,-34.295) 438(-50.085,-34.485) 439(-50.085,-34.675) 440(-50.085,-34.865) 441(-50.085,-35.055) 442(-50.085,-35.245) 443(-50.085,-35.435) 444(-50.085,-35.625) 445(-50.085,-35.815) 446(-50.085,-36.005) 447(-50.085,-36.195) 448(-50.085,-36.385) 449(-50.085,-36.575) 450(-50.085,-36.765) 451(-50.085,-36.955) 452(-50.085,-37.145) 453(-50.085,-37.335) 454(-50.085,-37.525) 455(-50.085,-37.715) 456(-50.085,-37.905) 457(-50.085,-38.095) 458(-50.085,-38.285) 459(-50.085,-38.475) 460(-50.085,-38.665) 461(-50.085,-38.855) 462(-50.085,-39.045) 463(-50.085,-39.235) 464(-50.085,-39.425) 465(-50.085,-39.615) 466(-50.085,-39.805) 467(-50.085,-39.995) 468(-50.085,-40.185) 469(-50.085,-40.375) 470(-50.085,-40.565) 471(-50.085,-40.755) 472(-50.085,-40.945) 473(-50.085,-41.135) 474(-50.085,-41.325) 475(-50.085,-41.515) 476(-50.085,-41.705) 477(-50.085,-41.895) 478(-50.085,-42.085) 479(-50.085,-42.275) 480(-50.085,-42.465) 481(-50.085,-42.655) 482(-50.085,-42.845) 483(-50.085,-43.035) 484(-50.085,-43.225) 485(-50.085,-43.415) 486(-50.085,-43.605) 487(-50.085,-43.795) 488(-50.085,-43.985) 489(-50.085,-44.175) 490(-50.085,-44.365) 491(-50.085,-44.555) 492(-50.085,-44.745) 493(-50.085,-44.935) 494(-50.085,-45.125) 495(-50.085,-45.315) 496(-50.085,-45.505) 497(-50.085,-45.695) 498(-50.085,-45.885) 499(-50.085,-46.075) 500(-50.085,-46.265) 501(-50.085,-46.455) 502(-50.085,-46.645) 503(-50.085,-46.835) 504(-50.085,-47.025) 505(-50.085,-47.215) 506(-50.085,-47.405) 507(-50.085,-47.595) 508(-50.085,-47.785) 509(-50.085,-47.975) 510(-50.085,-48.165) 511(-50.085,-48.355) 512(-50.085,-48.545) 513(50.085,-48.545) 514(50.085,-48.355) 515(50.085,-48.165) 516(50.085,-47.975) 517(50.085,-47.785) 518(50.085,-47.595) 519(50.085,-47.405) 520(50.085,-47.215) 521(50.085,-47.025) 522(50.085,-46.835) 523(50.085,-46.645) 524(50.085,-46.455) 525(50.085,-46.265) 526(50.085,-46.075) 527(50.085,-45.885) 528(50.085,-45.695) 529(50.085,-45.505) 530(50.085,-45.315) 531(50.085,-45.125) 532(50.085,-44.935) 533(50.085,-44.745) 534(50.085,-44.555) 535(50.085,-44.365) 536(50.085,-44.175) 537(50.085,-43.985) 538(50.085,-43.795) 539(50.085,-43.605) 540(50.085,-43.415) 541(50.085,-43.225) 542(50.085,-43.035) 543(50.085,-42.845) 544(50.085,-42.655) 545(50.085,-42.465) 546(50.085,-42.275) 547(50.085,-42.085) 548(50.085,-41.895) 549(50.085,-41.705) 550(50.085,-41.515) 551(50.085,-41.325) 552(50.085,-41.135) 553(50.085,-40.945) 554(50.085,-40.755) 555(50.085,-40.565) 556(50.085,-40.375) 557(50.085,-40.185) 558(50.085,-39.995) 559(50.085,-39.805) 560(50.085,-39.615) 561(50.085,-39.425) 562(50.085,-39.235) 563(50.085,-39.045) 564(50.085,-38.855) 565(50.085,-38.665) 566(50.085,-38.475) 567(50.085,-38.285) 568(50.085,-38.095) 569(50.085,-37.905) 570(50.085,-37.715) 571(50.085,-37.525) 572(50.085,-37.335) 573(50.085,-37.145) 574(50.085,-36.955) 575(50.085,-36.765) 576(50.085,-36.575) 577(50.085,-36.385) 578(50.085,-36.195) 579(50.085,-36.005) 580(50.085,-35.815) 581(50.085,-35.625) 582(50.085,-35.435) 583(50.085,-35.245) 584(50.085,-35.055) 585(50.085,-34.865) 586(50.085,-34.675) 587(50.085,-34.485) 588(50.085,-34.295) 589(50.085,-34.105) 590(50.085,-33.915) 591(50.085,-33.725) 592(50.085,-33.535) 593(50.085,-33.345) 594(50.085,-33.155) 595(50.085,-32.965) 596(50.085,-32.775) 597(50.085,-32.585) 598(50.085,-32.395) 599(50.085,-32.205) 600(50.085,-32.015) 601(50.085,-31.825) 602(50.085,-31.635) 603(50.085,-31.445) 604(50.085,-31.255) 605(50.085,-31.065) 606(50.085,-30.875) 607(50.085,-30.685) 608(50.085,-30.495) 609(50.085,-30.305) 610(50.085,-30.115) 611(50.085,-29.925) 612(50.085,-29.735) 613(50.085,-29.545) 614(50.085,-29.355) 615(50.085,-29.165) 616(50.085,-28.975) 617(50.085,-28.785) 618(50.085,-28.595) 619(50.085,-28.405) 620(50.085,-28.215) 621(50.085,-28.025) 622(50.085,-27.835) 623(50.085,-27.645) 624(50.085,-27.455) 625(50.085,-27.265) 626(50.085,-27.075) 627(50.085,-26.885) 628(50.085,-26.695) 629(50.085,-26.505) 630(50.085,-26.315) 631(50.085,-26.125) 632(50.085,-25.935) 633(50.085,-25.745) 634(50.085,-25.555) 635(50.085,-25.365) 636(50.085,-25.175) 637(50.085,-24.985) 638(50.085,-24.795) 639(50.085,-24.605) 640(50.085,-24.415) 641(50.085,-24.225) 642(50.085,-24.035) 643(50.085,-23.845) 644(50.085,-23.655) 645(50.085,-23.465) 646(50.085,-23.275) 647(50.085,-23.085) 648(50.085,-22.895) 649(50.085,-22.705) 650(50.085,-22.515) 651(50.085,-22.325) 652(50.085,-22.135) 653(50.085,-21.945) 654(50.085,-21.755) 655(50.085,-21.565) 656(50.085,-21.375) 657(50.085,-21.185) 658(50.085,-20.995) 659(50.085,-20.805) 660(50.085,-20.615) 661(50.085,-20.425) 662(50.085,-20.235) 663(50.085,-20.045) 664(50.085,-19.855) 665(50.085,-19.665) 666(50.085,-19.475) 667(50.085,-19.285) 668(50.085,-19.095) 669(50.085,-18.905) 670(50.085,-18.715) 671(50.085,-18.525) 672(50.085,-18.335) 673(50.085,-18.145) 674(50.085,-17.955) 675(50.085,-17.765) 676(50.085,-17.575) 677(50.085,-17.385) 678(50.085,-17.195) 679(50.085,-17.005) 680(50.085,-16.815) 681(50.085,-16.625) 682(50.085,-16.435) 683(50.085,-16.245) 684(50.085,-16.055) 685(50.085,-15.865) 686(50.085,-15.675) 687(50.085,-15.485) 688(50.085,-15.295) 689(50.085,-15.105) 690(50.085,-14.915) 691(50.085,-14.725) 692(50.085,-14.535) 693(50.085,-14.345) 694(50.085,-14.155) 695(50.085,-13.965) 696(50.085,-13.775) 697(50.085,-13.585) 698(50.085,-13.395) 699(50.085,-13.205) 700(50.085,-13.015) 701(50.085,-12.825) 702(50.085,-12.635) 703(50.085,-12.445) 704(50.085,-12.255) 705(50.085,-12.065) 706(50.085,-11.875) 707(50.085,-11.685) 708(50.085,-11.495) 709(50.085,-11.305) 710(50.085,-11.115) 711(50.085,-10.925) 712(50.085,-10.735) 713(50.085,-10.545) 714(50.085,-10.355) 715(50.085,-10.165) 716(50.085,-9.975) 717(50.085,-9.785) 718(50.085,-9.595) 719(50.085,-9.405) 720(50.085,-9.215) 721(50.085,-9.025) 722(50.085,-8.835) 723(50.085,-8.645) 724(50.085,-8.455) 725(50.085,-8.265) 726(50.085,-8.075) 727(50.085,-7.885) 728(50.085,-7.695) 729(50.085,-7.505) 730(50.085,-7.315) 731(50.085,-7.125) 732(50.085,-6.935) 733(50.085,-6.745) 734(50.085,-6.555) 735(50.085,-6.365) 736(50.085,-6.175) 737(50.085,-5.985) 738(50.085,-5.795) 739(50.085,-5.605) 740(50.085,-5.415) 741(50.085,-5.225) 742(50.085,-5.035) 743(50.085,-4.845) 744(50.085,-4.655) 745(50.085,-4.465) 746(50.085,-4.275) 747(50.085,-4.085) 748(50.085,-3.895) 749(50.085,-3.705) 750(50.085,-3.515) 751(50.085,-3.325) 752(50.085,-3.135) 753(50.085,-2.945) 754(50.085,-2.755) 755(50.085,-2.565) 756(50.085,-2.375) 757(50.085,-2.185) 758(50.085,-1.995) 759(50.085,-1.805) 760(50.085,-1.615) 761(50.085,-1.425) 762(50.085,-1.235) 763(50.085,-1.045) 764(50.085,-0.855) 765(50.085,-0.665) 766(50.085,-0.475) 767(50.085,-0.285) 768(50.085,-0.095) 769(50.085,0.095) 770(50.085,0.285) 771(50.085,0.475) 772(50.085,0.665) 773(50.085,0.855) 774(50.085,1.045) 775(50.085,1.235) 776(50.085,1.425) 777(50.085,1.615) 778(50.085,1.805) 779(50.085,1.995) 780(50.085,2.185) 781(50.085,2.375) 782(50.085,2.565) 783(50.085,2.755) 784(50.085,2.945) 785(50.085,3.135) 786(50.085,3.325) 787(50.085,3.515) 788(50.085,3.705) 789(50.085,3.895) 790(50.085,4.085) 791(50.085,4.275) 792(50.085,4.465) 793(50.085,4.655) 794(50.085,4.845) 795(50.085,5.035) 796(50.085,5.225) 797(50.085,5.415) 798(50.085,5.605) 799(50.085,5.795) 800(50.085,5.985) 801(50.085,6.175) 802(50.085,6.365) 803(50.085,6.555) 804(50.085,6.745) 805(50.085,6.935) 806(50.085,7.125) 807(50.085,7.315) 808(50.085,7.505) 809(50.085,7.695) 810(50.085,7.885) 811(50.085,8.075) 812(50.085,8.265) 813(50.085,8.455) 814(50.085,8.645) 815(50.085,8.835) 816(50.085,9.025) 817(50.085,9.215) 818(50.085,9.405) 819(50.085,9.595) 820(50.085,9.785) 821(50.085,9.975) 822(50.085,10.165) 823(50.085,10.355) 824(50.085,10.545) 825(50.085,10.735) 826(50.085,10.925) 827(50.085,11.115) 828(50.085,11.305) 829(50.085,11.495) 830(50.085,11.685) 831(50.085,11.875) 832(50.085,12.065) 833(50.085,12.255) 834(50.085,12.445) 835(50.085,12.635) 836(50.085,12.825) 837(50.085,13.015) 838(50.085,13.205) 839(50.085,13.395) 840(50.085,13.585) 841(50.085,13.775) 842(50.085,13.965) 843(50.085,14.155) 844(50.085,14.345) 845(50.085,14.535) 846(50.085,14.725) 847(50.085,14.915) 848(50.085,15.105) 849(50.085,15.295) 850(50.085,15.485) 851(50.085,15.675) 852(50.085,15.865) 853(50.085,16.055) 854(50.085,16.245) 855(50.085,16.435) 856(50.085,16.625) 857(50.085,16.815) 858(50.085,17.005) 859(50.085,17.195) 860(50.085,17.385) 861(50.085,17.575) 862(50.085,17.765) 863(50.085,17.955) 864(50.085,18.145) 865(50.085,18.335) 866(50.085,18.525) 867(50.085,18.715) 868(50.085,18.905) 869(50.085,19.095) 870(50.085,19.285) 871(50.085,19.475) 872(50.085,19.665) 873(50.085,19.855) 874(50.085,20.045) 875(50.085,20.235) 876(50.085,20.425) 877(50.085,20.615) 878(50.085,20.805) 879(50.085,20.995) 880(50.085,21.185) 881(50.085,21.375) 882(50.085,21.565) 883(50.085,21.755) 884(50.085,21.945) 885(50.085,22.135) 886(50.085,22.325) 887(50.085,22.515) 888(50.085,22.705) 889(50.085,22.895) 890(50.085,23.085) 891(50.085,23.275) 892(50.085,23.465) 893(50.085,23.655) 894(50.085,23.845) 895(50.085,24.035) 896(50.085,24.225) 897(50.085,24.415) 898(50.085,24.605) 899(50.085,24.795) 900(50.085,24.985) 901(50.085,25.175) 902(50.085,25.365) 903(50.085,25.555) 904(50.085,25.745) 905(50.085,25.935) 906(50.085,26.125) 907(50.085,26.315) 908(50.085,26.505) 909(50.085,26.695) 910(50.085,26.885) 911(50.085,27.075) 912(50.085,27.265) 913(50.085,27.455) 914(50.085,27.645) 915(50.085,27.835) 916(50.085,28.025) 917(50.085,28.215) 918(50.085,28.405) 919(50.085,28.595) 920(50.085,28.785) 921(50.085,28.975) 922(50.085,29.165) 923(50.085,29.355) 924(50.085,29.545) 925(50.085,29.735) 926(50.085,29.925) 927(50.085,30.115) 928(50.085,30.305) 929(50.085,30.495) 930(50.085,30.685) 931(50.085,30.875) 932(50.085,31.065) 933(50.085,31.255) 934(50.085,31.445) 935(50.085,31.635) 936(50.085,31.825) 937(50.085,32.015) 938(50.085,32.205) 939(50.085,32.395) 940(50.085,32.585) 941(50.085,32.775) 942(50.085,32.965) 943(50.085,33.155) 944(50.085,33.345) 945(50.085,33.535) 946(50.085,33.725) 947(50.085,33.915) 948(50.085,34.105) 949(50.085,34.295) 950(50.085,34.485) 951(50.085,34.675) 952(50.085,34.865) 953(50.085,35.055) 954(50.085,35.245) 955(50.085,35.435) 956(50.085,35.625) 957(50.085,35.815) 958(50.085,36.005) 959(50.085,36.195) 960(50.085,36.385) 961(50.085,36.575) 962(50.085,36.765) 963(50.085,36.955) 964(50.085,37.145) 965(50.085,37.335) 966(50.085,37.525) 967(50.085,37.715) 968(50.085,37.905) 969(50.085,38.095) 970(50.085,38.285) 971(50.085,38.475) 972(50.085,38.665) 973(50.085,38.855) 974(50.085,39.045) 975(50.085,39.235) 976(50.085,39.425) 977(50.085,39.615) 978(50.085,39.805) 979(50.085,39.995) 980(50.085,40.185) 981(50.085,40.375) 982(50.085,40.565) 983(50.085,40.755) 984(50.085,40.945) 985(50.085,41.135) 986(50.085,41.325) 987(50.085,41.515) 988(50.085,41.705) 989(50.085,41.895) 990(50.085,42.085) 991(50.085,42.275) 992(50.085,42.465) 993(50.085,42.655) 994(50.085,42.845) 995(50.085,43.035) 996(50.085,43.225) 997(50.085,43.415) 998(50.085,43.605) 999(50.085,43.795) 1000(50.085,43.985) 1001(50.085,44.175) 1002(50.085,44.365) 1003(50.085,44.555) 1004(50.085,44.745) 1005(50.085,44.935) 1006(50.085,45.125) 1007(50.085,45.315) 1008(50.085,45.505) 1009(50.085,45.695) 1010(50.085,45.885) 1011(50.085,46.075) 1012(50.085,46.265) 1013(50.085,46.455) 1014(50.085,46.645) 1015(50.085,46.835) 1016(50.085,47.025) 1017(50.085,47.215) 1018(50.085,47.405) 1019(50.085,47.595) 1020(50.085,47.785) 1021(50.085,47.975) 1022(50.085,48.165) 1023(50.085,48.355) 1024(50.085,48.545)
  rect 1x1 smd: 2500(-50.085,50.085) 2501(50.085,50.085) 2502(50.085,-50.085) 2503(-50.085,-50.085)
Top Overlay:
  lines w0.2: -49.485,-49.485 -49.485,0 -49.485,49.485 0,49.485 49.485,49.485 49.485,0 49.485,-49.485 0,-49.485 -49.485,-49.485
Top Solder:
  region: 49.64,-50.285 49.64,-49.485 -49.69,-49.485 -49.69,-50.285
  region: 50.285,49.64 49.485,49.64 49.485,-49.69 50.285,-49.69
  region: -49.69,50.285 -49.69,49.485 49.64,49.485 49.64,50.285
  rectangle: -50.285,-49.69 -49.485,49.64
Keep-Out Layer:
  board cut-out: -41.385,41.385 41.385,41.385 41.385,-41.385 -41.385,-41.385
Mechanical 1:
  lines w0.08: -50.085,0 -49.385,0 ; 0,-50.085 0,-49.385 ; -49.385,0 -49.385,-49.385 0,-49.385 ; -49.385,0 -49.385,49.385 0,49.385 49.385,49.385 49.385,0 49.385,-49.385 0,-49.385
Mechanical 15:
  lines w0.05: -55.575,-55.575 -55.575,55.575 55.575,55.575 55.575,-55.575 -55.575,-55.575
  lines w0.08: -49.385,0 -41.385,0 ; 0,41.385 0,49.385
  lines w0.1: -49.485,0 -49.385,0 ; -0.5,0 0.5,0 ; 0,-0.5 0,0.5 ; 0,49.385 0,49.485
  lines w0.254: 0,-49.385 0,-41.385 ; 0,-41.385 -41.385,-41.385 -41.385,0 -41.385,41.385 0,41.385 41.385,41.385 41.385,0 ; 0,-41.385 41.385,-41.385 41.385,0 ; 0,-41.385 0,-41.385 ; 41.385,0 49.385,0 ; 49.385,0 49.385,0
3D body: height 40.7, standoff -2, extent 69.088,42.672 69.088,42.672
3D body "SSD v5.step": height 0.35, standoff 0, extent -49.35,-49.35 49.35,49.35